# EAGLE library part SMARTCARD (library smartwed)
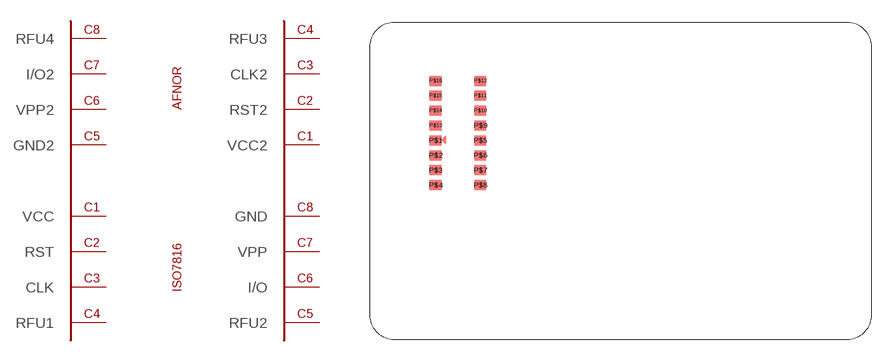
[diagram p0: symbol with the pads of SMARTCARD; footprint SMARTCARD]

Designator prefix -

## SMARTCARD  [SMARTCARD]
P$1  VCC  sup
P$2  RST  in
P$3  CLK  in
P$4  RFU1
P$5  GND  sup
P$6  VPP
P$7  I/O
P$8  RFU2
P$9  VCC2  sup
P$10  RST2  in
P$11  CLK2  in
P$12  RFU3
P$13  GND2  sup
P$14  VPP2
P$15  I/O2
P$16  RFU4

## Footprint SMARTCARD (pad centres in mm)
smd 2 x 1.7: P$1 -31.55,6.91; P$2 -31.55,4.37; P$3 -31.55,1.83; P$4 -31.55,-0.71; P$5 -23.93,6.91; P$6 -23.93,4.37; P$7 -23.93,1.83; P$8 -23.93,-0.71; P$9 -23.93,9.45; P$10 -23.93,11.99; P$11 -23.93,14.53; P$12 -23.93,17.07; P$13 -31.55,9.45; P$14 -31.55,11.99; P$15 -31.55,14.53; P$16 -31.55,17.07